# EAGLE library part OPA177S (library burr-brown)
Precision Operational Amplifier
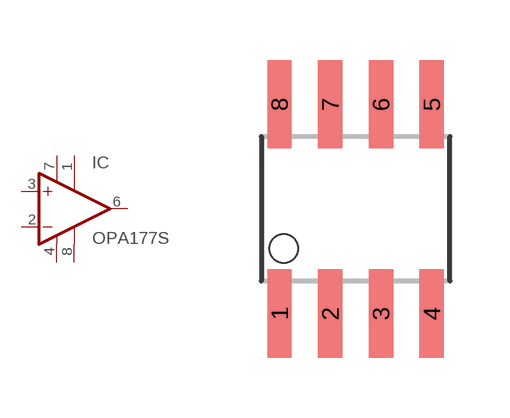
[diagram p122: symbol with the pads of SO-08; footprint SO-08]

Designator prefix IC

## OPA177S  [SO-08]
1  TRIM1  pas
2  -IN  in
3  +IN  in
4  V-  pwr
6  OUT  out
7  V+  pwr
8  TRIM2  pas

## Footprint SO-08 (pad centres in mm)
smd 0.61 x 2.21: 1 -1.905,-2.616; 2 -0.635,-2.616; 3 0.635,-2.616; 4 1.905,-2.616; 5 1.905,2.616; 6 0.635,2.616; 7 -0.635,2.616; 8 -1.905,2.616